# Altium footprint library CAP_0.1ufar_805pkg.PcbLib: 3 footprints
Each footprint in its own frame and in the unit in brackets; x right, y up, seen from the top. Pads: shape width x height; smd on the part's side, far side on the other; paste and mask are expansions set on the pad; w line width, h text height; cw(c..) or ccw(c..) is an arc to the next point about the centre after c.
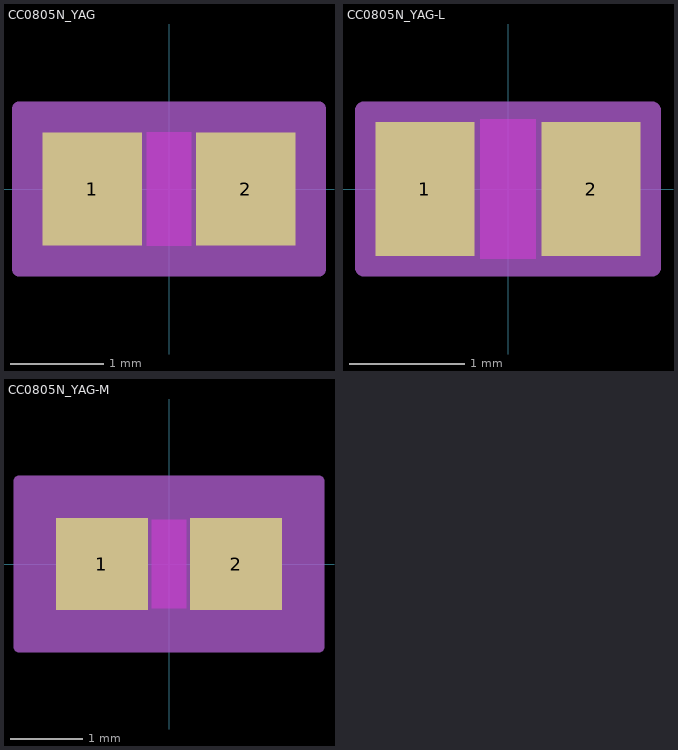
[diagram p0: the footprints below, top view; thin cyan lines are the x and y axes]

## CC0805N_YAG [mil]
pads (2):
  rect 42x48 smd paste+0 mask+0: 1(-32.5,0) 2(32.5,0)
Top Layer keep-out:
  region: -9.5,-22 -9.5,22 9.5,22 9.5,-22
Keep-Out Layer:
  region: -9.5,-24 -9.5,24 9.5,24 9.5,-24
Mechanical 13:
  lines w1: -39.5,-24 -39.5,24 ; -39.5,-24 -11.5,-24 -11.5,24 -39.5,24 ; -39.5,-24 39.5,-24 ; -39.5,-24 -39.5,24 ; -39.5,24 39.5,24 ; 39.5,-24 11.5,-24 11.5,24 39.5,24 ; 39.5,-24 39.5,24 ; 39.5,-24 39.5,24
Mechanical 15:
  region: 63.5,-34 -63.5,-34 -63.5,34 63.5,34
  lines w6: -63.5,-34 -63.5,34 63.5,34 63.5,-34 -63.5,-34
3D body "CC0805N_YAG.step": height 27.99, standoff 0, extent -39.49,-24.02 39.49,24.02

## CC0805N_YAG-L [mil]
pads (2):
  rect 34x46 smd paste+0 mask+0: 1(-28.5,0) 2(28.5,0)
Top Layer keep-out:
  region: -9.5,-22 -9.5,22 9.5,22 9.5,-22
Keep-Out Layer:
  region: -9.5,-24 -9.5,24 9.5,24 9.5,-24
Mechanical 13:
  lines w1: -39.5,-24 -39.5,24 ; -39.5,-24 -11.5,-24 -11.5,24 -39.5,24 ; -39.5,-24 39.5,-24 ; -39.5,-24 -39.5,24 ; -39.5,24 39.5,24 ; 39.5,-24 11.5,-24 11.5,24 39.5,24 ; 39.5,-24 39.5,24 ; 39.5,-24 39.5,24
Mechanical 15:
  region: 49.5,-27 -49.5,-27 -49.5,27 49.5,27
  lines w6: -49.5,-27 -49.5,27 49.5,27 49.5,-27 -49.5,-27
3D body "CC0805N_YAG.step": height 27.99, standoff 0, extent -39.49,-24.02 39.49,24.02

## CC0805N_YAG-M [mil]
pads (2):
  rect 50x50 smd paste+0 mask+0: 1(-36.5,0) 2(36.5,0)
Top Layer keep-out:
  region: -9.5,-22 -9.5,22 9.5,22 9.5,-22
Keep-Out Layer:
  region: -9.5,-24 -9.5,24 9.5,24 9.5,-24
Mechanical 13:
  lines w1: -39.5,-24 -39.5,24 ; -39.5,-24 -11.5,-24 -11.5,24 -39.5,24 ; -39.5,-24 39.5,-24 ; -39.5,-24 -39.5,24 ; -39.5,24 39.5,24 ; 39.5,-24 11.5,-24 11.5,24 39.5,24 ; 39.5,-24 39.5,24 ; 39.5,-24 39.5,24
Mechanical 15:
  region: 81.5,-45 -81.5,-45 -81.5,45 81.5,45
  lines w6: -81.5,-45 -81.5,45 81.5,45 81.5,-45 -81.5,-45
3D body "CC0805N_YAG.step": height 27.99, standoff 0, extent -39.49,-24.02 39.49,24.02